# Altium footprint library RESC_1812_M4532.PcbLib: 1 footprints
Each footprint in its own frame and in the unit in brackets; x right, y up, seen from the top. Pads: shape width x height; smd on the part's side, far side on the other; paste and mask are expansions set on the pad; w line width, h text height; cw(c..) or ccw(c..) is an arc to the next point about the centre after c.
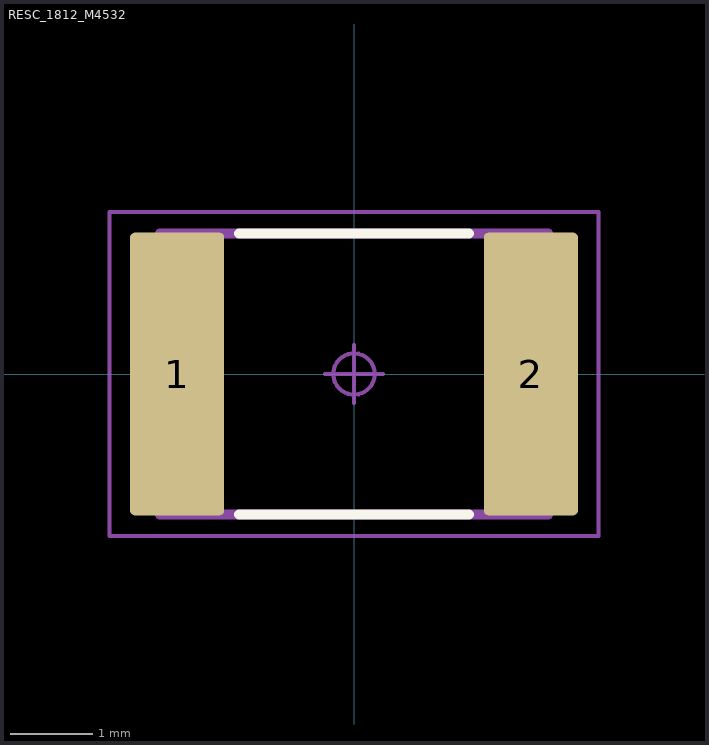
[diagram p0: the footprint, top view; thin cyan lines are the x and y axes]

## RESC_1812_M4532 [mm] "Resistor, Chip; 4.50 mm L X 3.20 mm W X 0.70 mm H body"
pads (2):
  rrect10% 1.14x3.42 smd: 1(-2.14,0) 2(2.14,0)
Top Overlay:
  lines w0.12: -1.39,-1.7 1.39,-1.7 ; -1.39,1.7 1.39,1.7
Mechanical 11:
  lines w0.12: -2.35,-1.7 2.35,-1.7 2.35,1.7 -2.35,1.7 -2.35,-1.7
  text ".Designator" at -3.648,-0.446 h2
Mechanical 15:
  circle w0.05: c0,0 r0.25
  lines w0.05: -0.35,0 0.35,0 ; 0,-0.35 0,0.35 ; -2.96,-1.96 2.96,-1.96 2.96,1.96 -2.96,1.96 -2.96,-1.96
3D body "RESC_1812_M4532.STEP": height 0.7, standoff 0, extent -2.35,-1.7 2.35,1.7